# Altium footprint library B0505S.PcbLib: 1 footprints
Each footprint in its own frame and in the unit in brackets; x right, y up, seen from the top. Pads: shape width x height; smd on the part's side, far side on the other; paste and mask are expansions set on the pad; w line width, h text height; cw(c..) or ccw(c..) is an arc to the next point about the centre after c.
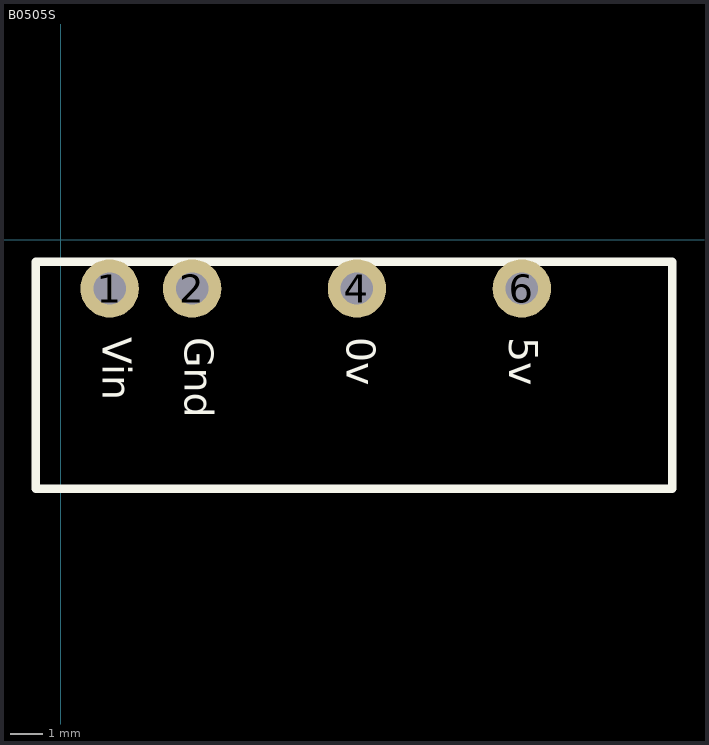
[diagram p0: the footprint, top view; thin cyan lines are the x and y axes]

## B0505S [mm]
pads (4):
  round 1.8 hole 1: 1(1.5,-1.5) 2(4.04,-1.5) 4(9.12,-1.5) 6(14.2,-1.5)
Top Overlay:
  lines w0.254: -0.776,-7.668 -0.776,-0.675 18.833,-0.675 18.833,-7.668 -0.776,-7.668
  text "5v" at 13.517,-3 h1.52
  text "0v" at 8.517,-3 h1.52
  text "Gnd" at 3.517,-3 h1.52
  text "Vin" at 1,-3.001 h1.52
3D body "B0505S-1W.stp": height 10.1, standoff -4.1, extent -0.771,-7.71 18.829,-0.71